# EAGLE library part HE721A0510 (library HE721A0510)
SPNO Reed Relay, 5V dc Source: Datasheet <http://www.littelfuse.com/~/media/electronics/datasheets/reed_relays/littelfuse_reed_relays_he700_datasheet.pdf.pdf>
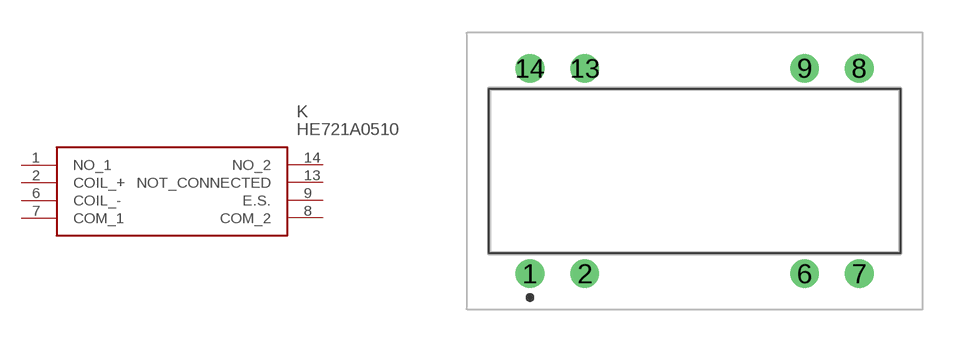
[diagram p0: symbol with the pads of HE721A0510; footprint HE721A0510]

Designator prefix K

## HE721A0510 (Arrow_Part_Number: HE721A0510; Arrow_Price-Stock: https://www.arrow.com/en/products/he721a0510/littelfuse; Description: SPNO Reed Relay, 5V dc; Height: 5.82mm; Manufacturer_Name: LITTELFUSE; Manufacturer_Part_Number: HE721A0510; Mouser_Part_Number: 934-HE721A0510; Mouser_Price-Stock: https://www.mouser.co.uk/ProductDetail/Littelfuse/HE721A0510?qs=X8LBAgEWIKIfZjBxMXqqBA%3D%3D)  [HE721A0510]
1  NO_1
2  COIL_+
6  COIL_-
7  COM_1
8  COM_2
9  E.S.
13  NOT_CONNECTED
14  NO_2

## Footprint HE721A0510 (pad centres in mm)
HE721A0510-3
drill 0.77 pad 1.32: 1 0,0; 2 2.54,0; 6 12.7,0; 7 15.24,0; 8 15.24,9.52; 9 12.7,9.52; 13 2.54,9.52; 14 0,9.52